# Altium footprint library SODFL360X160X130L80X100N.PcbLib: 1 footprints
Each footprint in its own frame and in the unit in brackets; x right, y up, seen from the top. Pads: shape width x height; smd on the part's side, far side on the other; paste and mask are expansions set on the pad; w line width, h text height; cw(c..) or ccw(c..) is an arc to the next point about the centre after c.
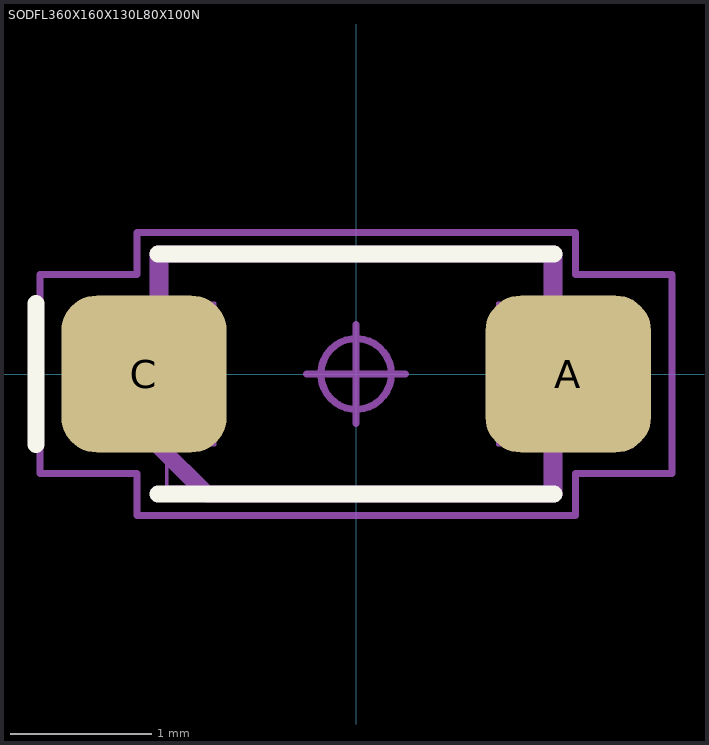
[diagram p0: the footprint, top view; thin cyan lines are the x and y axes]

## SODFL360X160X130L80X100N [mm] "Diode, Small Outline Diode Flat Lead (SODFL); 2.675 mm L X 1.60 mm W X 1.30 mm H body"
height 1.3
pads (2):
  rrect45% 1.17x1.11 smd: A(1.5,0) C(-1.5,0)
Top Overlay:
  lines w0.12: -2.265,-0.5 -2.265,0.5 ; -1.4,-0.85 1.4,-0.85 ; -1.4,0.85 1.4,0.85
Mechanical 3:
  lines w0.12: -1.4,-0.505 -1.055,-0.85 1.4,-0.85 1.4,0.85 -1.4,0.85 -1.4,-0.505
Mechanical 5:
  lines w0.025: -1.8,-0.5 -1,-0.5 -1,0.5 -1.8,0.5 -1.8,-0.5 ; -1.338,-0.8 -1.338,0.8 1.338,0.8 1.338,-0.8 -1.338,-0.8 ; 1,-0.5 1,0.5 1.8,0.5 1.8,-0.5 1,-0.5
Mechanical 7:
  circle w0.05: c0,0 r0.25
  lines w0.05: -0.35,0 0.35,0 ; 0,-0.35 0,0.35 ; -2.235,-0.705 -2.235,0.705 -1.55,0.705 -1.55,1 1.55,1 1.55,0.705 2.235,0.705 2.235,-0.705 1.55,-0.705 1.55,-1 -1.55,-1 -1.55,-0.705 -2.235,-0.705
Mechanical 9:
  text ".Designator" at -5.334,-0.381 h1
3D body "SODFL360X160X130L80X100.STEP": height 1.3, standoff 0, extent -1.8,-0.8 1.8,0.8
3D body: height 1, standoff 0, extent -2.235,-1 2.235,1